# Altium footprint library QFN-8.PcbLib: 1 footprints
Each footprint in its own frame and in the unit in brackets; x right, y up, seen from the top. Pads: shape width x height; smd on the part's side, far side on the other; paste and mask are expansions set on the pad; w line width, h text height; cw(c..) or ccw(c..) is an arc to the next point about the centre after c.
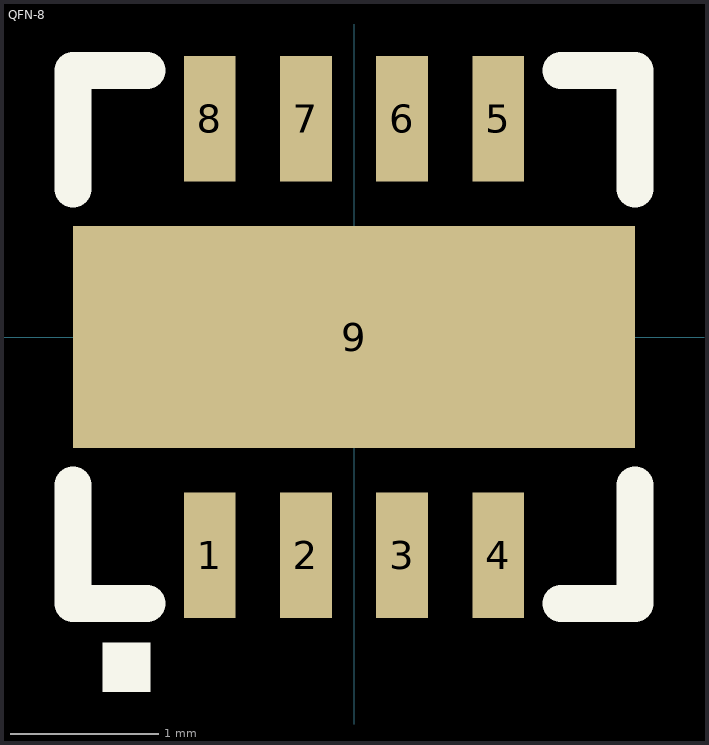
[diagram p0: the footprint, top view; thin cyan lines are the x and y axes]

## QFN-8 [mm]
height 1.016
pads (9):
  rect 0.35x0.85 smd: 1(-0.975,-1.475) 2(-0.325,-1.475) 3(0.325,-1.475) 4(0.975,-1.475) 5(0.975,1.475) 6(0.325,1.475) 7(-0.325,1.475) 8(-0.975,1.475)
  rect 3.8x1.5 smd: 9(0,0)
TopOverlay:
  rectangle: -1.7,-2.4 -1.376,-2.066
  lines w0.25: -1.9,-1 -1.9,-1.8 -1.4,-1.8 ; -1.9,1 -1.9,1.8 -1.4,1.8 ; 1.4,-1.8 1.9,-1.8 1.9,-1 ; 1.4,1.8 1.9,1.8 1.9,1
3D body: height 0.9, standoff 0, extent -1.5,-1.5 1.5,1.502